# Altium schematic symbol library NLCV32T-101K-PF.SchLib: 1 symbol
Pins are listed as number, name and electrical type; pins without a type are passive.

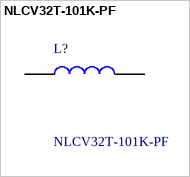
[diagram p0: symbol NLCV32T-101K-PF]

## NLCV32T-101K-PF
designator L?
TDK - NLCV32T-101K-PF - High Frequency Inductor, 100 H, NLCV Series, 120 mA, 1210 [3225 Metric], Wirewound, 3.7 ohm; Geometry.Height: 2.4mm; Mouser Part Number: 810-NLCV32T-101K; Mouser Price/Stock: https://www.mouser.co.uk/ProductDetail/TDK/NLCV32T-101K-PF?qs=stv2FWaTEl%252Bc4r1Vm288kQ%3D%3D; Manufacturer_Name: TDK; Manufacturer_Part_Number: NLCV32T-101K-PF; Datasheet Link: https://product.tdk.com/system/files/dam/doc/product/inductor/inductor/smd/catalog/inductor_commercial_decoupling_nlcv32-pf_en.pdf
footprint INDM3225X240N
pins: 1, 2